# EAGLE library part WSEN-PDMS_2513130810205 (library WSEN)
WSEN-PDUS - 2513130810102 3.3 V, ±1kPa Differential Pressure Sensor Details see: https://www.we-online.com/catalog/en/WSEN-PDUS/
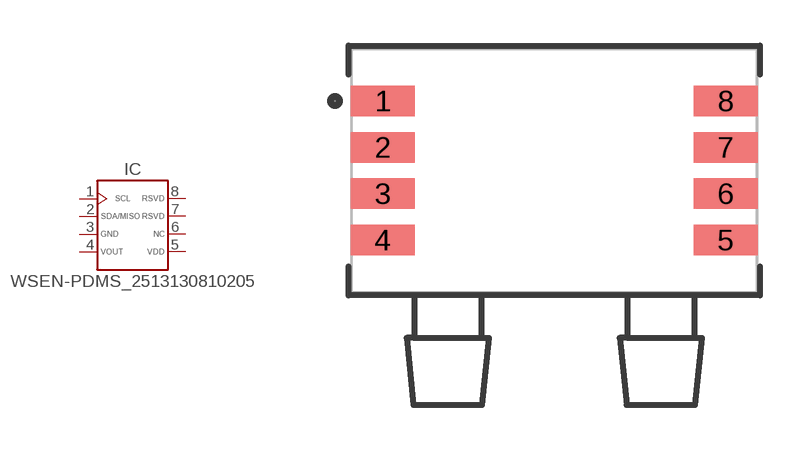
[diagram p16: symbol with the pads of WE-PDXS_HORIZONTAL; footprint WE-PDXS_HORIZONTAL]

Designator prefix IC

## WSEN-PDMS_2513130810205 (DATASHEET: https://www.we-online.com/redexpert/spec/2513130810205?ae; HEIGHT: 4.56mm; MANUFACTURER: Würth Elektronik; MOUNT: SMT; PART-NUMBER: 2513130810205; VALUE: 2513130810205; VERSION: Horizontal)  [WE-PDXS_HORIZONTAL]
1  1  in
2  2
3  3  pwr
4  4  out
5  5  pwr
6  6  nc
7  7
8  8

## Footprint WE-PDXS_HORIZONTAL (pad centres in mm)
WSEN-PDXS Differential Pressure Sensor Horizontal-barbed nozzles, SMT, 8pins LXWXH=13.31mmX11.6mmX4.56mm
smd 2.1 x 1: 1 -5.63,2.285; 2 -5.63,0.76; 3 -5.63,-0.76; 4 -5.63,-2.285; 5 5.63,-2.285; 6 5.63,-0.76; 7 5.63,0.76; 8 5.63,2.285